# Altium footprint library BM70BLES1FC2-0B05BA.PcbLib: 1 footprints
Each footprint in its own frame and in the unit in brackets; x right, y up, seen from the top. Pads: shape width x height; smd on the part's side, far side on the other; paste and mask are expansions set on the pad; w line width, h text height; cw(c..) or ccw(c..) is an arc to the next point about the centre after c.
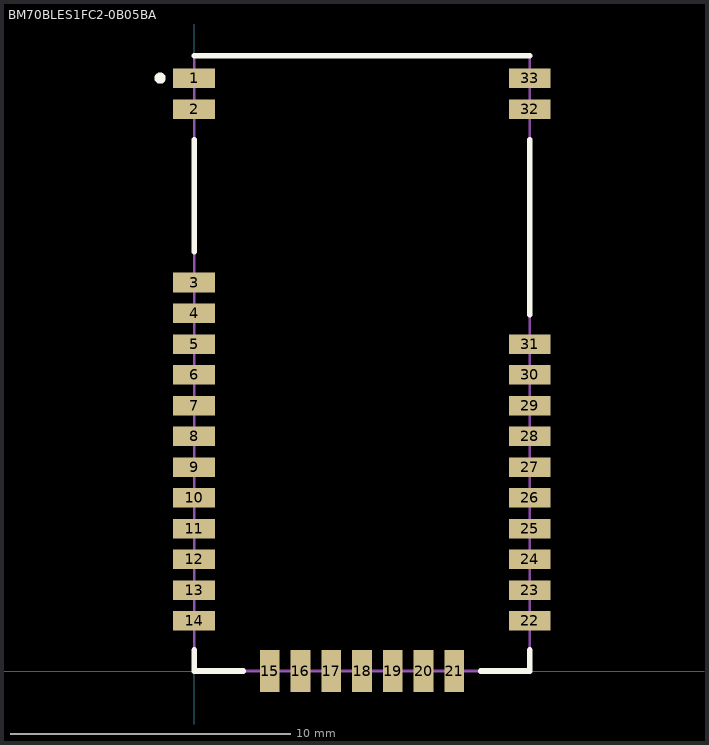
[diagram p0: the footprint, top view; thin cyan lines are the x and y axes]

## BM70BLES1FC2-0B05BA [mm]
pads (33):
  rect 1.5x0.7 smd: 1(0,21.2) 2(0,20.1) 3(0,13.9) 4(0,12.8) 5(0,11.7) 6(0,10.6) 7(0,9.5) 8(0,8.4) 9(0,7.3) 10(0,6.2) 11(0,5.1) 12(0,4) 13(0,2.9) 14(0,1.8) 22(12,1.8) 23(12,2.9) 24(12,4) 25(12,5.1) 26(12,6.2) 27(12,7.3) 28(12,8.4) 29(12,9.5) 30(12,10.6) 31(12,11.7) 32(12,20.1) 33(12,21.2)
  rect 0.7x1.5 smd: 15(2.702,0) 16(3.802,0) 17(4.902,0) 18(6.002,0) 19(7.102,0) 20(8.202,0) 21(9.302,0)
Top Overlay:
  lines w0.2: 0,0.75 0,0 1.75,0 ; 0,15.007 0,19.007 ; 0.002,0.757 0.002,0.007 1.752,0.007 ; 0.002,15.007 0.002,19.007 ; 10.25,0 12,0 12,0.75 ; 10.252,0.007 12.002,0.007 12.002,0.757 ; 12,12.75 12,19 ; 12.002,12.757 12.002,19.007 ; -1.319,21.209 ccw(c-1.219,21.209) -1.119,21.209 ; -1.319,21.209 cw(c-1.219,21.209) -1.119,21.209 ; -1.319,21.209 ccw(c-1.219,21.209) -1.119,21.209 ; 0.002,22.007 12.002,22.007 0.002,22.007
Mechanical 13:
  lines w0.1: 0,0.007 0,22.007 12,22.007 ; 0.002,0.007 12.002,0.007 ; 12,0 12,22
3D body "Bluetooth - BM70BLES1FC2.STEP": height 1.5, standoff 0, extent 0,0 12,22